# EAGLE library part CARD_EDGE_18 (library Mechanical)
Place this along the edge of the PCB. Solder male pins directly to the pads to create a pluggable .10" Dip-style card
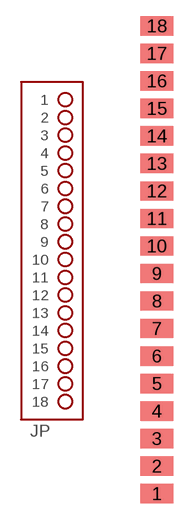
[diagram p82: symbol with the pads of CARD_EDGE_18; footprint CARD_EDGE_18]

Designator prefix JP

## CARD_EDGE_18  [CARD_EDGE_18]
1  1  pas
2  2  pas
3  3  pas
4  4  pas
5  5  pas
6  6  pas
7  7  pas
8  8  pas
9  9  pas
10  10  pas
11  11  pas
12  12  pas
13  13  pas
14  14  pas
15  15  pas
16  16  pas
17  17  pas
18  18  pas

## Footprint CARD_EDGE_18 (pad centres in mm)
Solder male pins along card edge to create a .10" Dip-style pluggable card.
smd 3.048 x 1.778: 1 0,-20.32; 2 0,-17.78; 3 0,-15.24; 4 0,-12.7; 5 0,-10.16; 6 0,-7.62; 7 0,-5.08; 8 0,-2.54; 9 0,0; 10 0,2.54; 11 0,5.08; 12 0,7.62; 13 0,10.16; 14 0,12.7; 15 0,15.24; 16 0,17.78; 17 0,20.32; 18 0,22.86